# EAGLE library part 1-1393763-9 (library Relays)
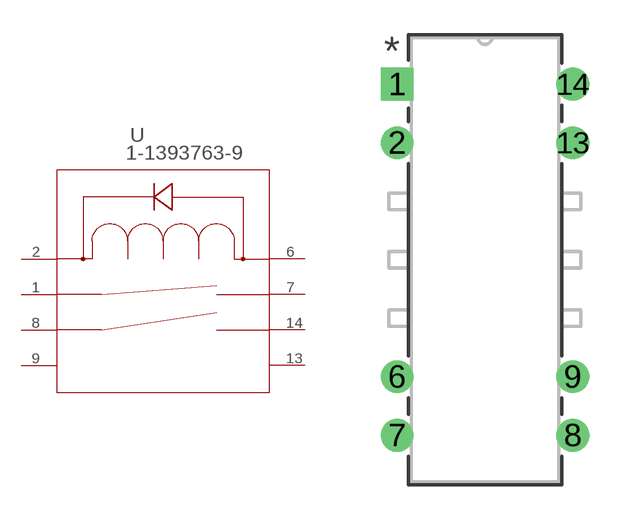
[diagram p64: symbol with the pads of RELAY14-8_300X295P100; footprint RELAY14-8_300X295P100]

Designator prefix U

## 1-1393763-9 (BUILT_BY: EMA_UL_Team; CATEGORY: Signal Relays; COPYRIGHT: Copyright (C) 2016 Accelerated Designs. All rights reserved; DESCRIPTION: V23100V4305B010; MANUFACTURER_PART_NUMBER: 1-1393763-9; PART_STATUS: active; SERIES: Axicom Reed Relay V23100 -V4; VENDOR: TE Connectivity)  [RELAY14-8_300X295P100]
1  1  pas
2  2  pas
6  6  pas
7  7  pas
8  14  pas
9  9  pas
13  13  pas
14  8  pas

## Footprint RELAY14-8_300X295P100 (pad centres in mm)
drill 0.711 pad 1.422 square: 1 -7.62,15.24
drill 0.711 pad 1.422: 2 -7.62,12.7; 6 -7.62,2.54; 7 -7.62,0; 8 0,0; 9 0,2.54; 13 0,12.7; 14 0,15.24